# Altium schematic symbol library Schlib1.SchLib: 5 symbols
Pins are listed as number, name and electrical type; pins without a type are passive.

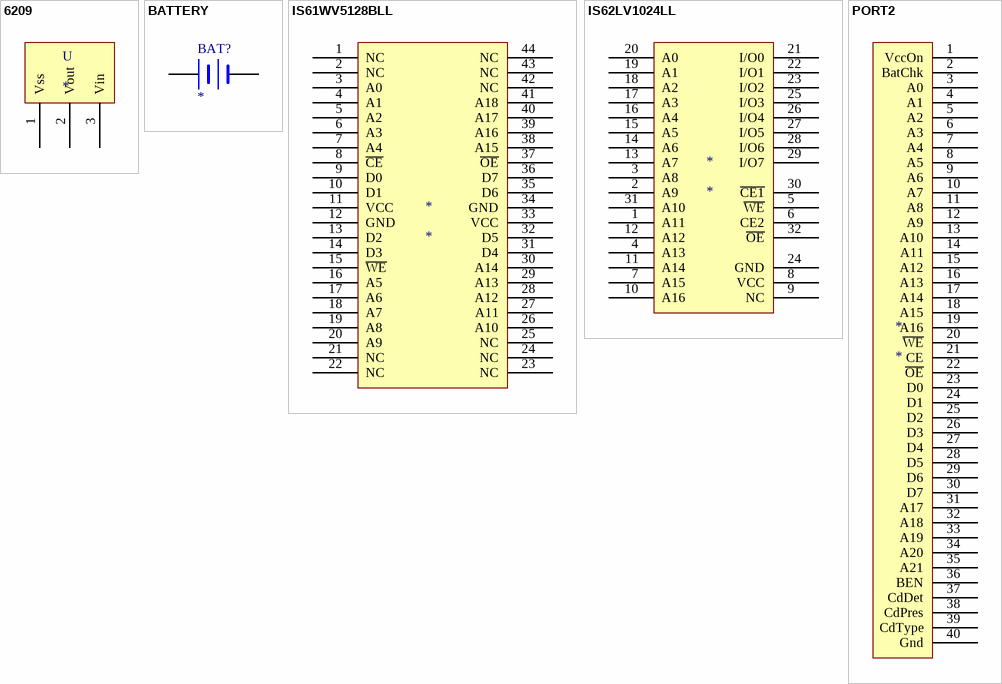
[diagram p0: symbols 6209 to PORT2]

## 6209
designator U
footprint SOT-23
pins: 1 Vss, 2 Vout, 3 Vin

## BATTERY
designator BAT?
footprint CR1220
pins: 1 +, 2 -

## IS61WV5128BLL
designator *
footprint SOP44
pins: 1 NC, 2 NC, 3 A0, 4 A1, 5 A2, 6 A3, 7 A4, 8 ~{CE}, 9 D0, 10 D1, 11 VCC, 12 GND, 13 D2, 14 D3, 15 ~{WE}, 16 A5, 17 A6, 18 A7, 19 A8, 20 A9, 21 NC, 22 NC, 23 NC, 24 NC, 25 NC, 26 A10, 27 A11, 28 A12, 29 A13, 30 A14, 31 D4, 32 D5, 33 VCC, 34 GND, 35 D6, 36 D7, 37 ~{OE}, 38 A15, 39 A16, 40 A17, 41 A18, 42 NC, 43 NC, 44 NC

## IS62LV1024LL
designator *
footprint TSOP32
pins: 1 A11, 2 A9, 3 A8, 4 A13, 5 ~{WE}, 6 CE2, 7 A15, 8 VCC, 9 NC, 10 A16, 11 A14, 12 A12, 13 A7, 14 A6, 15 A5, 16 A4, 17 A3, 18 A2, 19 A1, 20 A0, 21 I/O0, 22 I/O1, 23 I/O2, 24 GND, 25 I/O3, 26 I/O4, 27 I/O5, 28 I/O6, 29 I/O7, 30 ~{CE1}, 31 A10, 32 ~{OE}

## PORT2
designator *
footprint SOP80
pins: 1 VccOn, 2 BatChk, 3 A0, 4 A1, 5 A2, 6 A3, 7 A4, 8 A5, 9 A6, 10 A7, 11 A8, 12 A9, 13 A10, 14 A11, 15 A12, 16 A13, 17 A14, 18 A15, 19 A16, 20 ~{WE}, 21 CE, 22 ~{OE}, 23 D0, 24 D1, 25 D2, 26 D3, 27 D4, 28 D5, 29 D6, 30 D7, 31 A17, 32 A18, 33 A19, 34 A20, 35 A21, 36 BEN, 37 CdDet, 38 CdPres, 39 CdType, 40 Gnd